# EAGLE library part 74HC595N,112 (library NXP_By_element14_Batch_1)
8-bit serial-in, serial or parallel-out shift register with output latches 3-state
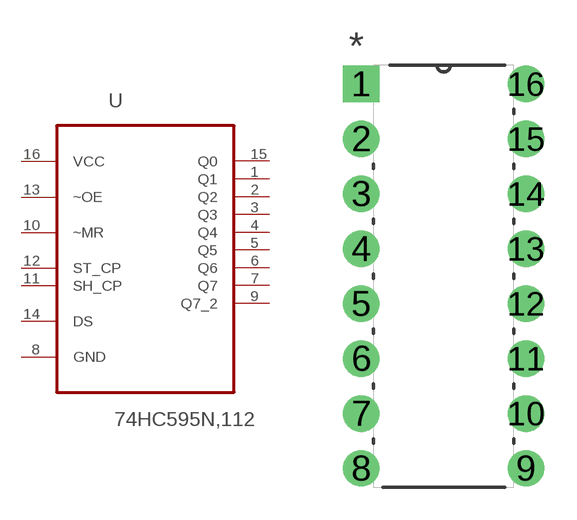
[diagram p149: symbol with the pads of DIP254P762X420-16; footprint DIP254P762X420-16]

Designator prefix U

## 74HC595N,112 (MPN: 74HC595N,112; OC_FARNELL: 1826799; OC_NEWARK: 71R2683; PACKAGE: DIP-16; SUPPLIER: NXP)  [DIP254P762X420-16]
1  Q1  out
2  Q2  out
3  Q3  out
4  Q4  out
5  Q5  out
6  Q6  out
7  Q7  out
8  GND  pas
9  Q7_2  out
10  ~MR  in
11  SH_CP  in
12  ST_CP  in
13  ~OE  in
14  DS  in
15  Q0  out
16  VCC  pwr

## Footprint DIP254P762X420-16 (pad centres in mm)
drill 1.118 square: 1 -7.62,17.78
drill 1.118: 2 -7.62,15.24; 3 -7.62,12.7; 4 -7.62,10.16; 5 -7.62,7.62; 6 -7.62,5.08; 7 -7.62,2.54; 8 -7.62,0; 9 0,0; 10 0,2.54; 11 0,5.08; 12 0,7.62; 13 0,10.16; 14 0,12.7; 15 0,15.24; 16 0,17.78